# EAGLE library part ADA4505-2ACBZ-R7 (library ADA4505)
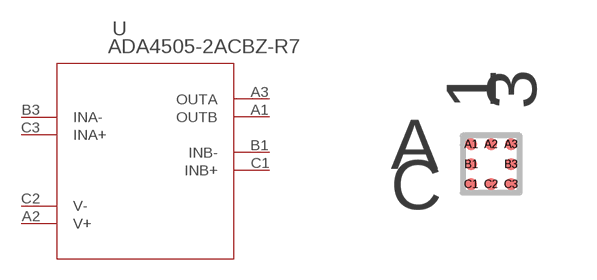
[diagram p0: symbol with the pads of CB_8_2; footprint CB_8_2]

Designator prefix U

## ADA4505-2ACBZ-R7 (MANUFACTURER_PART_NUMBER: ADA45052ACBZR7; VENDOR: Analog Devices Inc)  [CB_8_2]
A1  OUTB  pas
A2  V+  pwr
A3  OUTA  pas
B1  INB-  pas
B3  INA-  pas
C1  INB+  pas
C2  V-  pwr
C3  INA+  pas

## Footprint CB_8_2 (pad centres in mm)
smd 0.305 x 0.305: A1 -0.5,0.5; A2 0,0.5; A3 0.5,0.5; B1 -0.5,0; B3 0.5,0; C1 -0.5,-0.5; C2 0,-0.5; C3 0.5,-0.5